# Altium schematic symbol library MSP.SchLib: 1 symbol
Pins are listed as number, name and electrical type; pins without a type are passive.

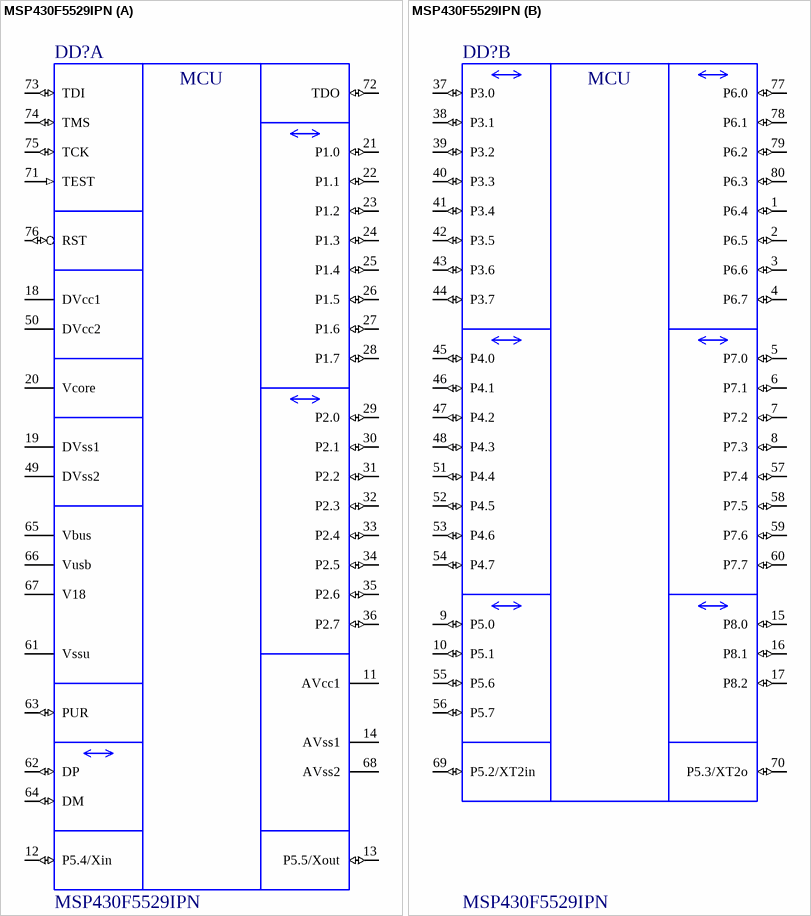
[diagram p0: symbol MSP430F5529IPN]

## MSP430F5529IPN
designator DD?
ValueSch: MSP430F5529IPN
part A pins: 11 AVcc1 (power) "Analog power supply", 12 P5.4/Xin (io) "General-purpose digital I/O Input terminal for crystal oscillator XT1", 13 P5.5/Xout (io) "General-purpose digital I/O Output terminal for crystal oscillator XT1", 14 AVss1 (power) "Analog ground supply", 18 DVcc1 (power) "Digital power supply", 19 DVss1 (power) "Digital ground supply", 20 Vcore (power) "Regulated core power supply", 21 P1.0 (io) "General-purpose digital I/O with port interrupt TA0 clock signal TA0CLK input  ACLK output (divided by 1, 2, 4, 8, 16, or 32)", 22 P1.1 (io) "General-purpose digital I/O with port interrupt  TA0 CCR0 capture: CCI0A input, compare: Out0 output  BSL transmit output", 23 P1.2 (io) "P1.2/TA0.1 General-purpose digital I/O with port interrupt TA0 CCR1 capture: CCI1A input, compare: Out1 output  BSL receive input", 24 P1.3 (io) "General-purpose digital I/O with port interrupt  TA0 CCR2 capture: CCI2A input, compare: Out2 output", 25 P1.4 (io) "General-purpose digital I/O with port interrupt  TA0 CCR3 capture: CCI3A input, compare: Out3 output", 26 P1.5 (io) "General-purpose digital I/O with port interrupt  TA0 CCR3 capture: CCI4A input, compare: Out4 output", 27 P1.6 (io) "General-purpose digital I/O with port interrupt  TA1 clock signal TA1CLK input  Comparator_B output", 28 P1.7 (io) "General-purpose digital I/O with port interrupt TA1 CCR0 capture: CCI0A input, compare: Out0 output", 29 P2.0 (io) "P2.0/TA1.1 General-purpose digital I/O with port interrupt TA1 CCR1 capture: CCI1A input, compare: Out1 output", 30 P2.1 (io) "P2.1/TA1.2 General-purpose digital I/O with port interrupt TA1 CCR2 capture: CCI2A input, compare: Out2 output", 31 P2.2 (io) "P2.2/TA2CLK/SMCLK General-purpose digital I/O with port interrupt  TA2 clock signal TA2CLK input  SMCLK output", 32 P2.3 (io) "P2.3/TA2.0 General-purpose digital I/O with port interrupt TA2 CCR0 capture: CCI0A input, compare: Out0 output", 33 P2.4 (io) "P2.4/TA2.1 General-purpose digital I/O with port interrupt TA2 CCR1 capture: CCI1A input, compare: Out1 output", 34 P2.5 (io) "P2.5/TA2.2 General-purpose digital I/O with port interrupt TA2 CCR2 capture: CCI2A input, compare: Out2 output", 35 P2.6 (io) "P2.6/RTCCLK/DMAE0 General-purpose digital I/O with port interrupt RTC clock output for calibration  DMA external trigger input", 36 P2.7 (io) "P2.7/UCB0STE/UCA0CLK General-purpose digital I/O with port interrupt  Slave transmit enable – USCI_B0 SPI mode Clock signal input – USCI_A0 SPI slave mode  Clock signal output – USCI_A0 SPI master mode", 49 DVss2 (power) "Digital ground supply", 50 DVcc2 (power) "Digital power supply", 61 Vssu (power) "USB PHY ground supply", 62 DP (io) "PU.0/DP General-purpose digital I/O - controlled by USB control register USB data terminal DP", 63 PUR (io) "PUR USB pullup resistor pin (open drain). The voltage level at the PUR pin is used to invoke the default USB BSL. Recommended 1-M? resistor to ground. See USB BSL  for more information.", 64 DM (io) "PU.1/DM General-purpose digital I/O - controlled by USB control register USB data terminal DM", 65 Vbus (power) "USB LDO input (connect to USB power source)", 66 Vusb (power) "USB LDO output", 67 V18 (power) "USB regulated power (internal use only, no external current loading)", 68 AVss2 (power) "Analog ground supply", 71 TEST (in) "TEST/SBWTCK Test mode pin – Selects four wire JTAG operation. Spy-Bi-Wire input clock when Spy-Bi-Wire operation activated", 72 TDO (io) "PJ.0/TDO General-purpose digital I/O JTAG test data output port", 73 TDI (io) "PJ.1/TDI/TCLK General-purpose digital I/O JTAG test data input or test clock input", 74 TMS (io) "PJ.2/TMS General-purpose digital I/O JTAG test mode select", 75 TCK (io) "PJ.3/TCK General-purpose digital I/O JTAG test clock", 76 RST (io) "RST/NMI/SBWTDIO Reset input active low Non-maskable interrupt input  Spy-Bi-Wire data input/output when Spy-Bi-Wire operation activated"
part B pins: 1 P6.4 (io) "P6.4/CB4/A4 General-purpose digital I/O Comparator_B input CB4  Analog input A4 – ADC (not available on F551x devices)", 2 P6.5 (io) "P6.5/CB5/A5 General-purpose digital I/O Comparator_B input CB5  Analog input A5 – ADC (not available on F551x devices)", 3 P6.6 (io) "P6.6/CB6/A6 General-purpose digital I/O Comparator_B input CB6  Analog input A6 – ADC (not available on F551x devices)", 4 P6.7 (io) "P6.7/CB7/A7 General-purpose digital I/O Comparator_B input CB7  Analog input A7 – ADC (not available on F551x devices)", 5 P7.0 (io) "P7.0/CB8/A12 General-purpose digital I/O (not available on F5528, F5526, F5524, F5522, F5514, F5513 devices)  Comparator_B input CB8 (not available on F5528, F5526, F5524, F5522,  F5514, F5513 devices)  Analog input A12 – ADC (not available on F551x devi", 6 P7.1 (io) "P7.1/CB9/A13 General-purpose digital I/O (not available on F5528, F5526, F5524, F5522, F5514, F5513 devices) Comparator_B input CB9 (not available on F5528, F5526, F5524, F5522,  F5514, F5513 devices)  Analog input A13 – ADC (not available on F551x devic", 7 P7.2 (io) "P7.2/CB10/A14 General-purpose digital I/O (not available on F5528, F5526, F5524, F5522, F5514, F5513 devices) Comparator_B input CB10 (not available on F5528, F5526, F5524, F5522,  F5514, F5513 devices)  Analog input A14 – ADC (not available on F551x dev", 8 P7.3 (io) "P7.3/CB11/A15 General-purpose digital I/O (not available on F5528, F5526, F5524, F5522, F5514, F5513 devices) Comparator_B input CB11 (not available on F5528, F5526, F5524, F5522,  F5514, F5513 devices)  Analog input A15 – ADC (not available on F551x dev", 9 P5.0 (io) "P5.0/A8/VREF+/VeREF+ General-purpose digital I/O Output of reference voltage to the ADC (not available on F551x devices) Input for an external reference voltage to the ADC (not available on F551x  devices)  Analog input A8 – ADC (not available on F551x d", 10 P5.1 (io) "P5.1/A9/VREF-/VeREF- General-purpose digital I/O Negative terminal for the ADC reference voltage for both sources, the internal reference voltage, or an external applied reference voltage (not  available on F551x devices)  Analog input A9 – ADC (not avai", 15 P8.0 (io) "P8.0 General-purpose digital I/O", 16 P8.1 (io) "P8.1 General-purpose digital I/O", 17 P8.2 (io) "P8.2 General-purpose digital I/O", 37 P3.0 (io) "P3.0/UCB0SIMO/UCB0SDA General-purpose digital I/O  Slave in, master out – USCI_B0 SPI mode  I2C data – USCI_B0 I2C mode", 38 P3.1 (io) "P3.1/UCB0SOMI/UCB0SCL General-purpose digital I/O  Slave out, master in – USCI_B0 SPI mode  I2C clock – USCI_B0 I2C mode", 39 P3.2 (io) "P3.2/UCB0CLK/UCA0STE General-purpose digital I/O  Clock signal input – USCI_B0 SPI slave mode Clock signal output – USCI_B0 SPI master mode  Slave transmit enable – USCI_A0 SPI mode", 40 P3.3 (io) "P3.3/UCA0TXD/UCA0SIMO General-purpose digital I/O Transmit data – USCI_A0 UART mode  Slave in, master out – USCI_A0 SPI mode", 41 P3.4 (io) "P3.4/UCA0RXD/UCA0SOMI General-purpose digital I/O Receive data – USCI_A0 UART mode  Slave out, master in – USCI_A0 SPI mode", 42 P3.5 (io) "P3.5/TB0.5 General-purpose digital I/O (not available on F5528, F5526, F5524, F5522, F5514, F5513 devices)  TB0 CCR5 capture: CCI5A input, compare: Out5 output", 43 P3.6 (io) "P3.6/TB0.6 General-purpose digital I/O (not available on F5528, F5526, F5524, F5522, F5514, F5513 devices)  TB0 CCR6 capture: CCI6A input, compare: Out6 output", 44 P3.7 (io) "P3.7/TB0OUTH/SVMOUT General-purpose digital I/O (not available on F5528, F5526, F5524, F5522, F5514, F5513 devices) Switch all PWM outputs high impedance input – TB0 (not available on  F5528, F5526, F5524, F5522, F5514, F5513 devices)  SVM output (not av", 45 P4.0 (io) "P4.0/PM_UCB1STE/PM_UCA1CLK General-purpose digital I/O with reconfigurable port mapping secondary  function Default mapping: Slave transmit enable – USCI_B1 SPI mode Default mapping: Clock signal input – USCI_A1 SPI slave mode  Default mapping: Clock sig", 46 P4.1 (io) "P4.1/PM_UCB1SIMO/PM_UCB1SDA General-purpose digital I/O with reconfigurable port mapping secondary function Default mapping: Slave in, master out – USCI_B1 SPI mode  Default mapping: I2C data – USCI_B1 I2C mode", 47 P4.2 (io) "P4.2/PM_UCB1SOMI/PM_UCB1SCL General-purpose digital I/O with reconfigurable port mapping secondary function Default mapping: Slave out, master in – USCI_B1 SPI mode  Default mapping: I2C clock – USCI_B1 I2C mode", 48 P4.3 (io) "P4.3/PM_UCB1CLK/PM_UCA1STE General-purpose digital I/O with reconfigurable port mapping secondary  function Default mapping: Clock signal input – USCI_B1 SPI slave mode  Default mapping: Clock signal output – USCI_B1 SPI master mode  Default mapping: Sla", 51 P4.4 (io) "P4.4/PM_UCA1TXD/PM_UCA1SIMO General-purpose digital I/O with reconfigurable port mapping secondary function Default mapping: Transmit data – USCI_A1 UART mode  Default mapping: Slave in, master out – USCI_A1 SPI mode", 52 P4.5 (io) "P4.5/PM_UCA1RXD/PM_UCA1SOMI General-purpose digital I/O with reconfigurable port mapping secondary function Default mapping: Receive data – USCI_A1 UART mode  Default mapping: Slave out, master in – USCI_A1 SPI mode", 53 P4.6 (io) "P4.6/PM_NONE General-purpose digital I/O with reconfigurable port mapping secondary function  Default mapping: no secondary function", 54 P4.7 (io) "P4.7/PM_NONE General-purpose digital I/O with reconfigurable port mapping secondary function  Default mapping: no secondary function", 55 P5.6 (io) "P5.6/TB0.0 General-purpose digital I/O (not available on F5528, F5526, F5524,  F5522, F5514, F5513 devices) TB0 CCR0 capture: CCI0A input, compare: Out0 output (not available on  F5528, F5526, F5524, F5522, F5514, F5513 devices)", 56 P5.7 (io) "P5.7/TB0.1 General-purpose digital I/O (not available on F5528, F5526, F5524,  F5522, F5514, F5513 devices) TB0 CCR1 capture: CCI1A input, compare: Out1 output (not available on  F5528, F5526, F5524, F5522, F5514, F5513 devices)", 57 P7.4 (io) "P7.4/TB0.2 General-purpose digital I/O (not available on F5528, F5526, F5524, F5522, F5514, F5513 devices) TB0 CCR2 capture: CCI2A input, compare: Out2 output (not available on  F5528, F5526, F5524, F5522, F5514, F5513 devices)", 58 P7.5 (io) "P7.5/TB0.3 General-purpose digital I/O (not available on F5528, F5526, F5524, F5522, F5514, F5513 devices) TB0 CCR3 capture: CCI3A input, compare: Out3 output (not available on  F5528, F5526, F5524, F5522, F5514, F5513 devices)", 59 P7.6 (io) "P7.6/TB0.4 General-purpose digital I/O (not available on F5528, F5526, F5524, F5522, F5514, F5513 devices) TB0 CCR4 capture: CCI4A input, compare: Out4 output (not available on  F5528, F5526, F5524, F5522, F5514, F5513 devices)", 60 P7.7 (io) "P7.7/TB0CLK/MCLK General-purpose digital I/O (not available on F5528, F5526, F5524, F5522, F5514, F5513 devices) TB0 clock signal TBCLK input (not available on F5528, F5526, F5524,  F5522, F5514, F5513 devices)  MCLK output (not available on F5528, F5526", 69 P5.2/XT2in (io) "General-purpose digital I/O Input terminal for crystal oscillator XT2", 70 P5.3/XT2o (io) "P5.3/XT2OUT General-purpose digital I/O Output terminal of crystal oscillator XT2", 77 P6.0 (io) "P6.0/CB0/A0 General-purpose digital I/O Comparator_B input CB0  Analog input A0 – ADC (not available on F551x devices)", 78 P6.1 (io) "P6.1/CB1/A1 General-purpose digital I/O Comparator_B input CB1  Analog input A1 – ADC (not available on F551x devices)", 79 P6.2 (io) "P6.2/CB2/A2 General-purpose digital I/O Comparator_B input CB2 Analog input A2 – ADC (not available on F551x devices)", 80 P6.3 (io) "P6.3/CB3/A3 General-purpose digital I/O Comparator_B input CB3 Analog input A3 – ADC (not available on F551x devices)"
part A text: MCU
part B text: MCU